# Altium footprint library FemaleReceptacleSMD_50mil.PcbLib: 2 footprints
Each footprint in its own frame and in the unit in brackets; x right, y up, seen from the top. Pads: shape width x height; smd on the part's side, far side on the other; paste and mask are expansions set on the pad; w line width, h text height; cw(c..) or ccw(c..) is an arc to the next point about the centre after c.
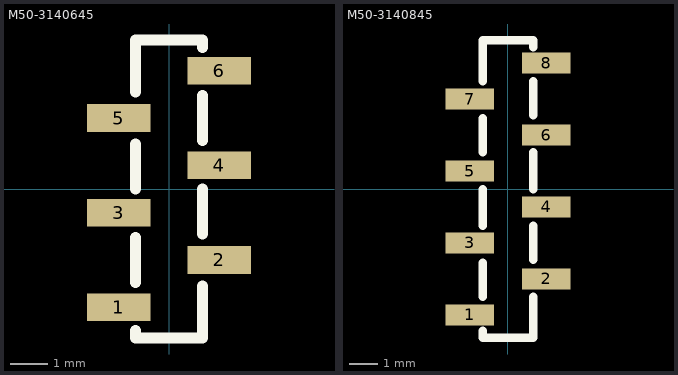
[diagram p0: the footprints below, top view; thin cyan lines are the x and y axes]

## M50-3140645 [mm]
pads (6):
  rect 1.7x0.74 smd: 1(-1.35,-3.175) 2(1.35,-1.905) 3(-1.35,-0.635) 4(1.35,0.635) 5(-1.35,1.905) 6(1.35,3.175)
Top Overlay:
  lines w0.3: -0.9,-3.8 -0.9,-4 0.9,-4 0.9,-2.6 ; -0.9,-2.5 -0.9,-1.3 ; -0.9,0 -0.9,1.2 ; -0.9,2.6 -0.9,4 0.9,4 0.9,3.8 ; 0.9,-1.2 0.9,0 ; 0.9,1.3 0.9,2.5
3D body "m50-3140645_asm.stp": height 3.61, standoff 0.01, extent -1.6,-4.01 1.6,4.01

## M50-3140845 [mm]
pads (8):
  rect 1.7x0.74 smd: 1(-1.35,-4.445) 2(1.35,-3.175) 3(-1.35,-1.905) 4(1.35,-0.635) 5(-1.35,0.635) 6(1.35,1.905) 7(-1.35,3.175) 8(1.35,4.445)
Top Overlay:
  lines w0.3: -0.9,-5 -0.9,-5.25 0.9,-5.25 0.9,-3.8 ; -0.9,-3.8 -0.9,-2.6 ; -0.9,-1.3 -0.9,0 ; -0.9,1.3 -0.9,2.5 ; -0.9,3.8 -0.9,5.25 0.9,5.25 0.9,5 ; 0.9,-2.5 0.9,-1.3 ; 0.9,0 0.9,1.3 ; 0.9,2.6 0.9,3.8
3D body "m50-3140845_asm.stp": height 3.61, standoff 0.01, extent -1.6,-5.28 1.6,5.28